# Altium footprint library LABLIB.PcbLib: 94 footprints (part 4 of 6)
Each footprint in its own frame and in the unit in brackets; x right, y up, seen from the top. Pads: shape width x height; smd on the part's side, far side on the other; paste and mask are expansions set on the pad; w line width, h text height; cw(c..) or ccw(c..) is an arc to the next point about the centre after c.
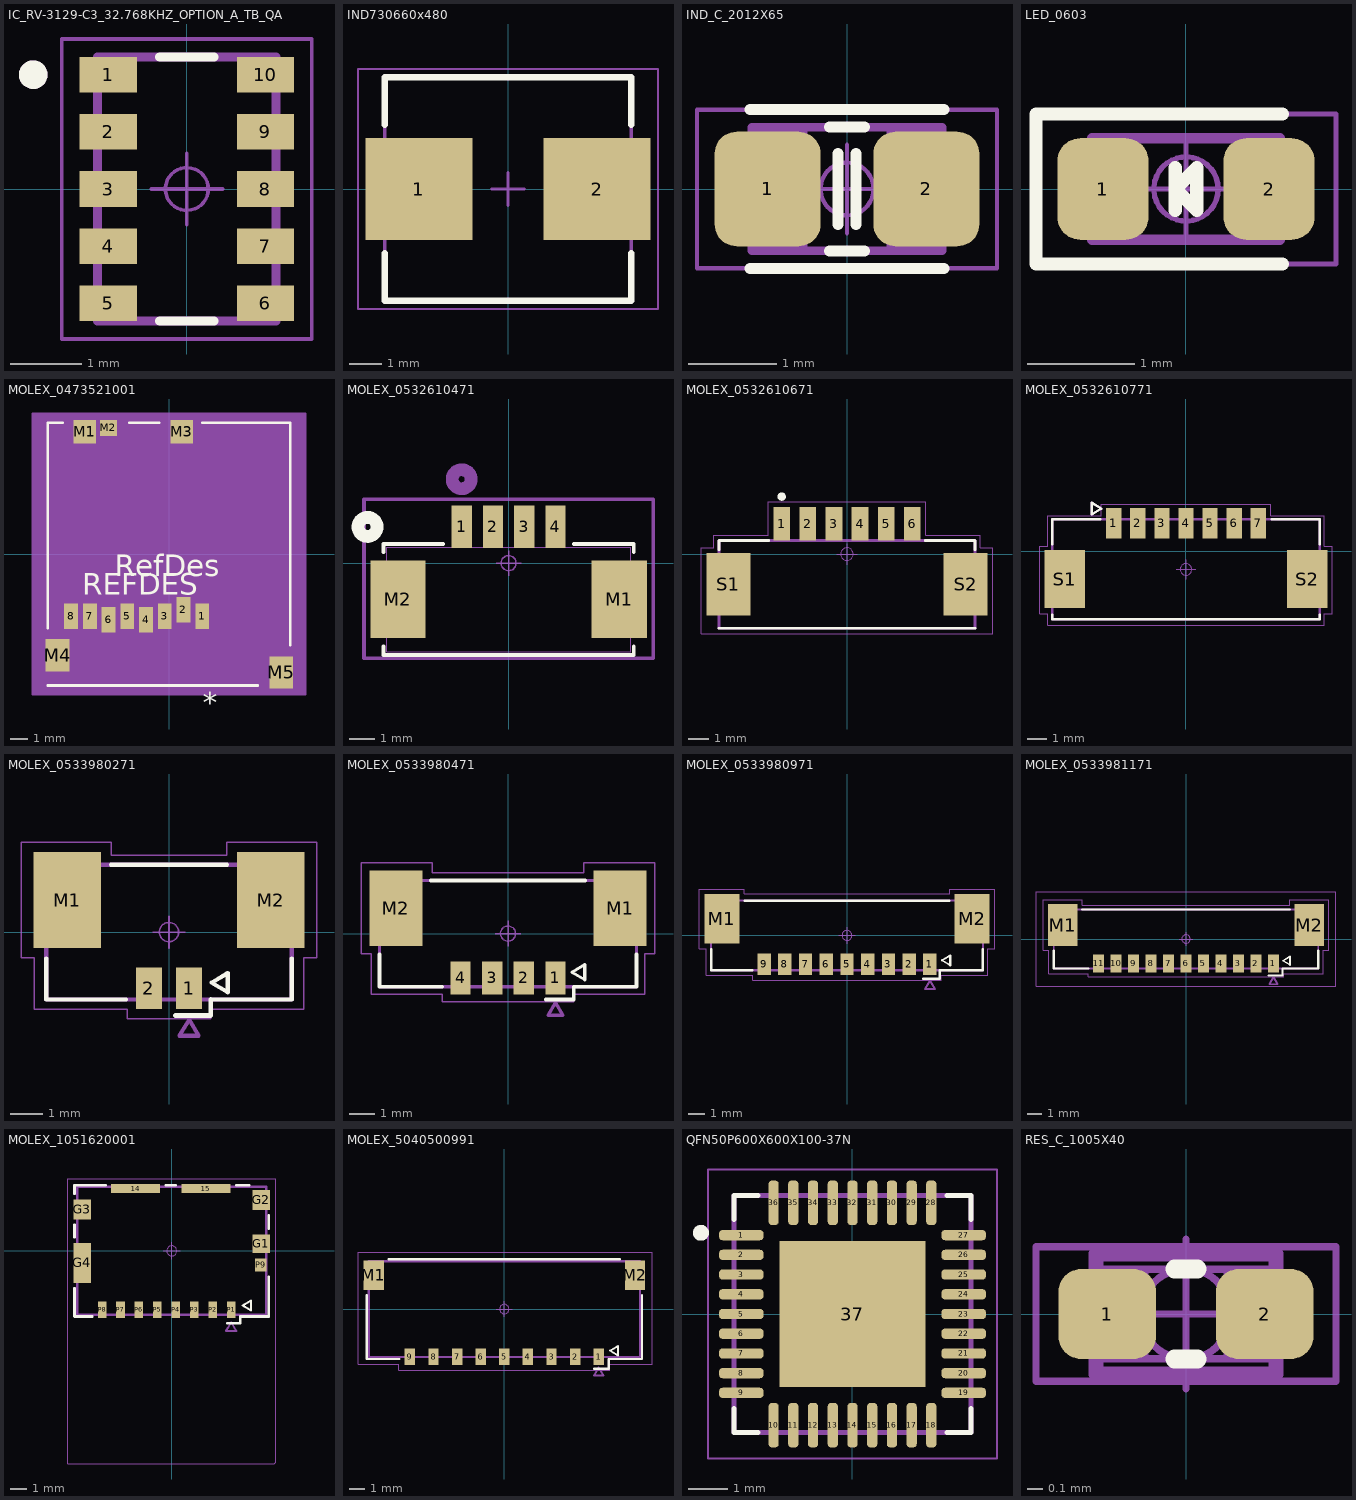
[diagram p3: the footprints below, top view; thin cyan lines are the x and y axes]

## IC_RV-3129-C3_32.768KHZ_OPTION_A_TB_QA [mm]
pads (10):
  rect 0.8x0.5 smd mask+0.05: 1(-1.1,1.6) 2(-1.1,0.8) 3(-1.1,0) 4(-1.1,-0.8) 5(-1.1,-1.6) 6(1.1,-1.6) 7(1.1,-0.8) 8(1.1,0) 9(1.1,0.8) 10(1.1,1.6)
Top Overlay:
  circle w0.2: c-2.15,1.6 r0.1
  lines w0.127: -0.38,-1.85 0.38,-1.85 ; -0.38,1.85 0.38,1.85
Top Assembly:
  circle w0.2: c-2.15,1.6 r0.1
  lines w0.127: -1.25,-1.85 1.25,-1.85 1.25,1.85 -1.25,1.85 -1.25,-1.85
  text "'.Designator'" at -3.952,-0.622 h1.5
Top Component Center:
  circle w0.05: c0,0 r0.3
  lines w0.05: -0.5,0 0.5,0 ; 0,-0.5 0,0.5
Mechanical 15:
  lines w0.05: -1.75,-2.1 -1.75,2.1 1.75,2.1 1.75,-2.1 -1.75,-2.1
3D body "step_temp.STEP": height 0.9, standoff 0, extent -1.25,-1.85 1.25,1.85

## IND730660x480 [mm] "Precision Wire Wound Inductor, 2-Leads, Body 7.30x6.60mm, IPC Medium Density"
height 4.8
pads (2):
  rect 3.3x3.15 smd: 1(-2.75,0) 2(2.75,0)
Top Overlay:
  lines w0.2: -3.8,-1.975 -3.8,-3.45 3.8,-3.45 3.8,-1.975 ; -3.8,1.975 -3.8,3.45 3.8,3.45 3.8,1.975
Top Courtyard:
  lines w0.05: -4.625,-3.7 4.625,-3.7 4.625,3.7 -4.625,3.7 -4.625,-3.7
  lines w0.1: -0.5,0 0.5,0 ; 0,-0.5 0,0.5
Top 3D Body:
  lines w0.1: -3.8,-3.45 3.8,-3.45 3.8,3.45 -3.8,3.45 -3.8,-3.45
3D body "PSM6050 Molded high current inductor.STEP": height 4.91, standoff -0.05, extent -3.6,-3.3 3.6,3.3

## IND_C_2012X65 [mm] "Chip Inductor, 2-Leads, Body 2.00x1.25mm, IPC High Density"
height 0.65
pads (2):
  rrect41% 1.2x1.3 smd: 1(-0.9,0) 2(0.9,0)
Top Overlay:
  lines w0.125: -1.1,-0.9 1.1,-0.9 ; -1.1,0.9 1.1,0.9 ; -0.2,-0.7 0.2,-0.7 ; -0.2,0.7 0.2,0.7 ; -0.1,-0.4 -0.1,0.4 ; 0.1,-0.4 0.1,0.4
Top Assembly:
  lines w0.1: -1.075,-0.7 1.075,-0.7 1.075,0.7 -1.075,0.7 -1.075,-0.7
  text "'.Designator'" at -4.217,-0.663 h1.6
Top Courtyard:
  lines w0.05: -1.7,-0.9 1.7,-0.9 1.7,0.9 -1.7,0.9 -1.7,-0.9
Top Component Outline:
  rectangle: -1.1,-0.7 -0.45,0.7
  region: 1.1,0.7 0.45,0.7 0.45,-0.7 1.1,-0.7
  lines w0.05: -1.1,-0.7 -1.1,0.7 1.1,0.7 1.1,-0.7 -1.1,-0.7
Top Component Center:
  circle w0.05: c0,0 r0.3
  lines w0.05: -0.5,0 0.5,0 ; 0,-0.5 0,0.5
3D body "RESC2012X65.step": height 0.65, standoff 0, extent -1.075,-0.7 1.075,0.7

## LED_0603 [mm]
pads (2):
  rrect50% 0.85x0.95 smd: 1(-0.775,0) 2(0.775,0)
Top Overlay:
  lines w0.125: -0.1,-0.2 -0.1,0.2 ; 0.9,-0.7 -1.4,-0.7 -1.4,0.7 0.9,0.7 ; -0.1,0 0.1,0.2 0.1,-0.2 -0.1,0
Top Assembly:
  lines w0.1: -0.875,-0.475 -0.875,0.475 0.875,0.475 0.875,-0.475 -0.875,-0.475
  text "'.Designator'" at -4.217,-0.663 h1.6
Top Courtyard:
  lines w0.05: -1.4,-0.7 -1.4,0.7 1.4,0.7 1.4,-0.7 -1.4,-0.7
Top Component Outline:
  rectangle: 0.475,-0.475 0.875,0.475
  rectangle: -0.875,-0.475 -0.475,0.475
  lines w0.05: -0.875,-0.475 0.875,-0.475 0.875,0.475 -0.875,0.475 -0.875,-0.475
Top Component Center:
  circle w0.05: c0,0 r0.3
  lines w0.05: -0.5,0 0.5,0 ; 0,-0.5 0,0.5
3D body "150060xxx.stp": height 0.7, standoff 0, extent -0.8,-0.4 0.8,0.4

## MOLEX_0473521001 [mil]
pads (13):
  rect 32x59 smd paste-29.5 mask-29.5: 1(76.73,-144.29) 2(33.43,-128.54) 3(-9.88,-144.29) 4(-53.19,-152.17) 5(-96.5,-144.29) 6(-139.8,-152.17) 7(-183.11,-144.29) 8(-226.42,-144.29)
  rect 51x55 smd paste+0 mask+0: M1(-194.88,283.18) M3(29.52,283.18)
  rect 39x37 smd paste+0 mask+0: M2(-140.24,292.18)
  rect 55x75 smd paste-37.5 mask-37.5: M4(-257.83,-234.56) M5(259.89,-273.93)
Top Overlay:
  lines w6: -280.5,-304 205.1,-304 ; -280.5,-172 -280.5,304 -245.33,304 ; -91.33,304 -22.83,304 ; 77.17,304 280.5,304 280.5,-211
  text "RefDes" at -125.98,-51.18 h50
  text "*" at 77.5,-370 h50
  text "REFDES" at -200.79,-94.49 h50
Mechanical 13:
  lines w1: -275.5,-299 275.5,-299 275.5,299 -275.5,299 -275.5,-299
  text "*" at 117.5,-180 h50
  text "RefDes2" at -87.5,-25 h50
Mechanical 15:
  region: -315.5,324 -315.5,-324 315.5,-324 315.5,324
  lines w6: -315.5,-324 315.5,-324 315.5,324 -315.5,324 -315.5,-324
3D body "473521001.stp": height 76.77, standoff 2.76, extent -279.53,-299.21 275.59,299.21

## MOLEX_0532610471 [mm]
pads (6):
  rect 0.813x1.702 smd paste+0 mask+0: 1(-1.875,1.45) 2(-0.625,1.45) 3(0.625,1.45) 4(1.875,1.45)
  rect 2.21x3.099 smd paste-1.549 mask-1.549: M1(4.425,-1.45) M2(-4.425,-1.45)
Top Overlay:
  circle w0.508: c-5.639,1.45 r0.381
  lines w0.152: -5.004,-3.332 -5.004,-3.677 5.004,-3.677 5.004,-3.332 ; -5.004,0.432 -5.004,0.768 -2.614,0.768 ; 2.614,0.768 5.004,0.768 5.004,0.432
Bottom Overlay:
  circle w0.508: c-5.639,1.45 r0.381
Top Assembly:
  text "'.Designator'" at -3.952,-0.622 h1.5
Top Component Center:
  circle w0.05: c0,0 r0.3
  lines w0.05: -0.5,0 0.5,0 ; 0,-0.5 0,0.5
Mechanical 13:
  circle w0.508: c-1.875,3.355 r0.381
  lines w0.025: -4.877,-3.55 4.877,-3.55 4.877,0.641 -4.877,0.641 -4.877,-3.55
Mechanical 15:
  lines w0.152: -5.784,-3.804 5.784,-3.804 5.784,2.555 -5.784,2.555 -5.784,-3.804
3D body "532610471.stp": height 3.4, standoff 0, extent -5.075,-3.515 5.075,1.685

## MOLEX_0532610671 [mm]
pads (8):
  rect 0.8x1.6 smd: 1(-3.125,1.45) 2(-1.875,1.45) 3(-0.625,1.45) 4(0.625,1.45) 5(1.875,1.45) 6(3.125,1.45)
  rect 2.1x3 smd: S1(-5.675,-1.45) S2(5.675,-1.45)
Top Overlay:
  circle w0.2: c-3.125,2.75 r0.1
  lines w0.127: -6.125,-3.55 6.125,-3.55 ; -6.125,0.2 -6.125,0.65 -3.75,0.65 ; 3.75,0.65 6.125,0.65 6.125,0.2
Top Assembly:
  text "'.Designator'" at -3.952,-0.622 h1.5
Top Component Center:
  circle w0.05: c0,0 r0.3
  lines w0.05: -0.5,0 0.5,0 ; 0,-0.5 0,0.5
Mechanical 13:
  lines w0.127: -6.125,-3.55 6.125,-3.55 6.125,0.65 -6.125,0.65 -6.125,-3.55
Mechanical 15:
  lines w0.05: -6.975,-3.8 -6.975,0.3 -6.375,0.3 -6.375,0.9 -3.775,0.9 -3.775,2.5 3.775,2.5 3.775,0.9 6.375,0.9 6.375,0.3 6.975,0.3 6.975,-3.8 -6.975,-3.8
3D body "53261-0671.stp": height 3.4, standoff 0, extent -6.325,-3.429 6.325,1.771

## MOLEX_0532610771 [mm]
height 3.4
pads (9):
  rect 0.8x1.6 smd mask+0.076: 1(-3.75,1.45) 2(-2.5,1.45) 3(-1.25,1.45) 4(0,1.45) 5(1.25,1.45) 6(2.5,1.45) 7(3.75,1.45)
  rect 2.1x3 smd mask+0.076: S1(-6.3,-1.45) S2(6.3,-1.45)
Top Overlay:
  lines w0.127: -6.95,-3.3 -6.95,-3.55 6.95,-3.55 6.95,-3.3 ; -6.95,0.35 -6.95,1.65 -4.47,1.65 ; 4.47,1.65 6.95,1.65 6.95,0.35 ; -4.895,1.915 -4.395,2.215 -4.895,2.515 -4.895,1.915
Top Assembly:
  text "'.Designator'" at -3.952,-1.572 h1.5
Top Courtyard:
  lines w0.05: -7.6,-3.25 -7.6,0.25 -7.2,0.25 -7.2,1.85 -4.4,1.85 -4.4,2.45 -4.2,2.45 4.4,2.45 4.4,1.85 7.2,1.85 7.2,0.25 7.6,0.25 7.6,-3.25 7.2,-3.25 7.2,-3.85 -7.2,-3.85 -7.2,-3.25 -7.6,-3.25
Top Component Center:
  circle w0.05: c0,-0.95 r0.3
  lines w0.05: -0.5,-0.95 0.5,-0.95 ; 0,-1.45 0,-0.45
Mechanical 13:
  lines w0.127: -6.95,-3.55 -6.95,1.65 6.95,1.65 6.95,-3.55 -6.95,-3.55 ; -4.895,1.915 -4.395,2.215 -4.895,2.515 -4.895,1.915
3D body "532610771.stp": height 3.4, standoff 0, extent -6.95,-3.61 6.95,1.59

## MOLEX_0533980271 [mm]
height 4.7
pads (4):
  rect 0.8x1.3 smd mask+0.076: 1(0.625,-1.75) 2(-0.625,-1.75)
  rect 2.1x3 smd mask+0.076: M1(-3.175,1) M2(3.175,1)
Top Overlay:
  lines w0.127: -3.825,-0.82 -3.825,-2.1 -1.345,-2.1 ; -1.805,2.1 1.805,2.1 ; 1.345,-2.1 3.825,-2.1 3.825,-0.82 ; 1.33,-1.575 1.83,-1.875 1.83,-1.275 1.33,-1.575
  lines w0.15: 0.2,-2.6 1.3,-2.6 1.3,-2.1
Top Assembly:
  lines w0.127: -3.825,-2.1 -3.825,2.1 3.825,2.1 3.825,-2.1 -3.825,-2.1 ; 0.325,-3.23 0.925,-3.23 0.625,-2.73 0.325,-3.23
  text "'.Designator'" at -4.217,-0.663 h1.6
Top Courtyard:
  lines w0.05: -4.6,-0.8 -4.2,-0.8 -4.2,-2.4 -1.3,-2.4 -1.3,-2.7 1.3,-2.7 1.3,-2.4 4.2,-2.4 4.2,-0.8 4.6,-0.8 4.6,2.8 4.2,2.8 1.8,2.8 1.8,2.4 -1.8,2.4 -1.8,2.8 -4.6,2.8 -4.6,-0.8
Top Component Center:
  circle w0.05: c0,0 r0.3
  lines w0.05: -0.5,0 0.5,0 ; 0,-0.5 0,0.5
3D body "533980271.STEP": height 4.7, standoff 0, extent -3.825,-2.096 3.825,2.104

## MOLEX_0533980471 [mm]
height 4.7
pads (6):
  rect 0.8x1.3 smd mask+0.076: 1(1.875,-1.75) 2(0.625,-1.75) 3(-0.625,-1.75) 4(-1.875,-1.75)
  rect 2.1x3 smd mask+0.076: M1(4.425,1) M2(-4.425,1)
Top Overlay:
  lines w0.127: 2.53,-1.525 3.03,-1.825 3.03,-1.225 2.53,-1.525
  lines w0.15: -5.075,-0.82 -5.075,-2.1 -2.595,-2.1 ; -3.055,2.1 3.055,2.1 ; 1.5,-2.6 2.6,-2.6 2.6,-2.1 ; 2.595,-2.1 5.075,-2.1 5.075,-0.82
Top Assembly:
  lines w0.127: -5.075,-2.1 -5.075,2.1 5.075,2.1 5.075,-2.1 -5.075,-2.1 ; 1.575,-3.23 2.175,-3.23 1.875,-2.73 1.575,-3.23
  text "'.Designator'" at -4.217,-0.663 h1.6
Top Courtyard:
  lines w0.05: -5.8,-0.8 -5.4,-0.8 -5.4,-2.4 -2.6,-2.4 -2.6,-2.7 2.6,-2.7 2.6,-2.4 5.4,-2.4 5.4,-0.8 5.8,-0.8 5.8,2.8 3,2.8 3,2.4 -3,2.4 -3,2.8 -3.4,2.8 -5.8,2.8 -5.8,-0.8
Top Component Center:
  circle w0.05: c0,0 r0.3
  lines w0.05: -0.5,0 0.5,0 ; 0,-0.5 0,0.5
3D body "533980471.STEP": height 4.7, standoff 0, extent -5.075,-2.15 5.075,2.05

## MOLEX_0533980971 [mm]
height 4.7
pads (11):
  rect 0.8x1.3 smd mask+0.076: 1(5,-1.75) 2(3.75,-1.75) 3(2.5,-1.75) 4(1.25,-1.75) 5(0,-1.75) 6(-1.25,-1.75) 7(-2.5,-1.75) 8(-3.75,-1.75) 9(-5,-1.75)
  rect 2.1x3 smd mask+0.076: M1(-7.55,1) M2(7.55,1)
Top Overlay:
  lines w0.127: 5.73,-1.5 6.23,-1.8 6.23,-1.2 5.73,-1.5
  lines w0.15: -8.2,-0.82 -8.2,-2.1 -5.72,-2.1 ; -6.18,2.1 6.18,2.1 ; 4.6,-2.6 5.6,-2.6 5.6,-2.1 8.2,-2.1 8.2,-0.82
Top Assembly:
  lines w0.127: -8.2,-2.1 -8.2,2.1 8.2,2.1 8.2,-2.1 -8.2,-2.1 ; 4.7,-3.23 5.3,-3.23 5,-2.73 4.7,-3.23
  text "'.Designator'" at -4.217,-0.663 h1.6
Top Courtyard:
  lines w0.05: -8.9,-0.8 -8.9,2.8 -6.5,2.8 -6.2,2.8 -6.2,2.5 6.2,2.5 6.2,2.8 8.9,2.8 8.9,-0.8 8.5,-0.8 8.5,-2.4 5.7,-2.4 5.7,-2.7 -5.7,-2.7 -5.7,-2.4 -8.5,-2.4 -8.5,-0.8 -8.9,-0.8
Top Component Center:
  circle w0.05: c0,0 r0.3
  lines w0.05: -0.5,0 0.5,0 ; 0,-0.5 0,0.5
3D body "533980971.STEP": height 4.7, standoff 0, extent -8.3,-2.05 8.1,2.15

## MOLEX_0533981171 [mm]
height 4.7
pads (13):
  rect 0.8x1.3 smd mask+0.076: 1(6.25,-1.75) 2(5,-1.75) 3(3.75,-1.75) 4(2.5,-1.75) 5(1.25,-1.75) 6(0,-1.75) 7(-1.25,-1.75) 8(-2.5,-1.75) 9(-3.75,-1.75) 10(-5,-1.75) 11(-6.25,-1.75)
  rect 2.1x3 smd mask+0.076: M1(-8.8,1) M2(8.8,1)
Top Overlay:
  lines w0.127: 6.93,-1.55 7.43,-1.85 7.43,-1.25 6.93,-1.55
  lines w0.15: -9.45,-0.82 -9.45,-2.1 -6.97,-2.1 ; -7.43,2.1 7.43,2.1 ; 5.9,-2.6 6.9,-2.6 6.9,-2.1 9.45,-2.1 9.45,-0.82
Top Assembly:
  lines w0.127: -9.45,-2.1 -9.45,2.1 9.45,2.1 9.45,-2.1 -9.45,-2.1 ; 5.95,-3.23 6.55,-3.23 6.25,-2.73 5.95,-3.23
  text "'.Designator'" at -4.217,-0.663 h1.6
Top Courtyard:
  lines w0.05: -10.2,-0.8 -10.2,2.8 -7.8,2.8 -7.4,2.8 -7.4,2.4 7.4,2.4 7.4,2.8 10.2,2.8 10.2,-0.8 9.8,-0.8 9.8,-2.5 7,-2.5 7,-2.7 -7,-2.7 -7,-2.5 -9.8,-2.5 -9.8,-2.4 -9.8,-0.8 -10.2,-0.8
Top Component Center:
  circle w0.05: c0,0 r0.3
  lines w0.05: -0.5,0 0.5,0 ; 0,-0.5 0,0.5
Mechanical 15:
  lines w0.05: -10.72,-3.37 -10.72,3.37 10.72,3.37 10.72,-3.37 -10.72,-3.37
3D body "533981171.STEP": height 4.7, standoff 0, extent -9.45,-2.15 9.45,2.05

## MOLEX_1051620001 [mil]
pads (15):
  rect 115x22 smd: 14(-84.45,146.35) 15(80.51,146.35)
  rect 41x43 smd: G1(209.65,17.02)
  rect 41x47 smd: G2(209.65,119.78) G3(-209.64,97.33)
  rect 41x94 smd: G4(-209.65,-28.06)
  rect 20x39 smd: P1(139.76,-138.49) P2(96.46,-138.49) P3(53.15,-138.49) P4(9.84,-138.49) P5(-33.46,-138.49) P6(-76.77,-138.49) P7(-120.08,-138.49) P8(-163.39,-138.49)
  rect 28x31 smd: P9(209.06,-32.98)
Top Overlay:
  lines w5: 166.54,-127.95 186.22,-139.76 186.22,-116.14 166.54,-127.95
  lines w5.91: 129.92,-169.29 161.42,-169.29 161.42,-153.54
  lines w6: -228,-88 -228,-154 -186,-154 ; -228,32 -228,61 ; -228,134 -228,154 -155,154 ; -14,154 10,154 ; 151,154 182,154 ; 163,-154 228,-154 228,-61 ; 228,52 228,83
Top Assembly:
  lines w5: 127.91,-187.55 151.53,-187.55 139.72,-167.87 127.91,-187.55
  lines w6: -222,-150 222,-150 222,150 -222,150 -222,-150
  text "'.Designator'" at -166.01,-26.12 h62.99
Top Courtyard:
  lines w1.97: -244.09,-500 240.16,-500 244.09,-496.06 244.09,169.29 -228.35,169.29 -244.09,169.29 -244.09,-169.29 -244.09,-500
Top Component Center:
  circle w1.97: c0,0 r11.81
  lines w1.97: -19.68,0 19.68,0 ; 0,-19.68 0,19.68
3D body "1051620001.STEP": height 57.09, standoff 0, extent -222.44,-149.61 222.44,149.61
3D body "User Library-Micro SD Card.SLDPRT": height 59.18, standoff 15.18, extent -208.66,-484.78 226.34,106.82

## MOLEX_5040500991 [mil]
pads (11):
  rect 26x41 smd paste+0 mask+0: 1(236.22,-119.76) 2(177.17,-119.76) 3(118.11,-119.76) 4(59.06,-119.76) 5(0,-119.76) 6(-59.06,-119.76) 7(-118.11,-119.76) 8(-177.17,-119.76) 9(-236.22,-119.76)
  rect 51x73 smd paste-36.5 mask-36.5: M1(-326.97,84.57) M2(326.97,84.57)
Top Overlay:
  lines w5: 264.96,-104.33 284.65,-92.52 284.65,-116.14 264.96,-104.33
  lines w5.91: -344.5,34.97 -344.5,-125 -262.32,-125 ; -288.97,125 288.97,125 ; 224.41,-149.61 260.92,-149.61 260.92,-125.02 ; 344.5,34.97 344.5,-125 260.9,-125 ; 260.9,-125 260.92,-125.02
Bottom Overlay:
  circle w20: c369.5,-119.76 r15
Top Assembly:
  lines w5: 224.26,-166.53 236.07,-146.84 247.89,-166.53 224.26,-166.53
  lines w5.91: -339.5,-120 339.5,-120 339.5,120 -339.5,120 -339.5,-120
  text "'.Designator'" at -166.01,-26.12 h62.99
Top Courtyard:
  lines w1.97: -366.14,-137.8 -366.14,141.73 -303.15,141.73 370.08,141.73 370.08,-137.8 263.78,-137.8 263.78,-153.54 -263.78,-153.54 -263.78,-137.8 -366.14,-137.8
Top Component Center:
  circle w1.97: c0,0 r11.81
  lines w1.97: -19.68,0 19.68,0 ; 0,-19.68 0,19.68
3D body "5040500991.stp": height 78.74, standoff 0, extent -355.31,-125.98 355.31,127.56

## QFN50P600X600X100-37N [mm]
pads (37):
  rrect70% 1.13x0.26 smd: 1(-2.82,2) 2(-2.82,1.5) 3(-2.82,1) 4(-2.82,0.5) 5(-2.82,0) 6(-2.82,-0.5) 7(-2.82,-1) 8(-2.82,-1.5) 9(-2.82,-2) 19(2.82,-2) 20(2.82,-1.5) 21(2.82,-1) 22(2.82,-0.5) 23(2.82,0) 24(2.82,0.5) 25(2.82,1) 26(2.82,1.5) 27(2.82,2)
  rrect70% 0.26x1.13 smd: 10(-2,-2.82) 11(-1.5,-2.82) 12(-1,-2.82) 13(-0.5,-2.82) 14(0,-2.82) 15(0.5,-2.82) 16(1,-2.82) 17(1.5,-2.82) 18(2,-2.82) 28(2,2.82) 29(1.5,2.82) 30(1,2.82) 31(0.5,2.82) 32(0,2.82) 33(-0.5,2.82) 34(-1,2.82) 35(-1.5,2.82) 36(-2,2.82)
  rect 3.7x3.7 smd paste-0.677: 37(0,0)
Top Overlay:
  circle w0.2: c-3.843,2.058 r0.1
  lines w0.127: -3,-2.4 -3,-3 -2.4,-3 ; -3,2.4 -3,3 -2.4,3 ; 2.4,-3 3,-3 3,-2.4 ; 2.4,3 3,3 3,2.4
Mechanical 13:
  lines w0.127: -3,-3 -3,3 3,3 3,-3 -3,-3
Mechanical 15:
  lines w0.05: -3.665,-3.665 -3.665,3.665 3.665,3.665 3.665,-3.665 -3.665,-3.665
3D body "step_temp.STEP": height 1, standoff 0, extent -3,-3 3,3

## RES_C_1005X40 [mm]
pads (2):
  rrect50% 0.65x0.6 smd mask+0.05: 1(-0.525,0) 2(0.525,0)
Top Overlay:
  lines w0.125: -0.075,-0.3 0.075,-0.3 ; -0.075,0.3 0.075,0.3
Top Assembly:
  lines w0.1: -0.6,-0.4 0.6,-0.4 0.6,0.4 -0.6,0.4 -0.6,-0.4
  text "'.Designator'" at -4.433,-0.827 h1.6
Top Courtyard:
  lines w0.05: -1,-0.45 -1,0.45 1,0.45 1,-0.45 -0.575,-0.45 -1,-0.45
Top Component Outline:
  rectangle: -0.55,-0.3 -0.25,0.3
  rectangle: 0.25,-0.3 0.55,0.3
  lines w0.05: -0.55,-0.3 0.55,-0.3 0.55,0.3 -0.55,0.3 -0.55,-0.3
Top Component Center:
  circle w0.05: c0,0 r0.3
  lines w0.05: -0.5,0 0.5,0 ; 0,-0.5 0,0.5
3D body "6-1622826-4.stp": height 0.38, standoff 0.02, extent -0.5,-0.25 0.5,0.25